# EAGLE library part TRS232E (library Pygmy)
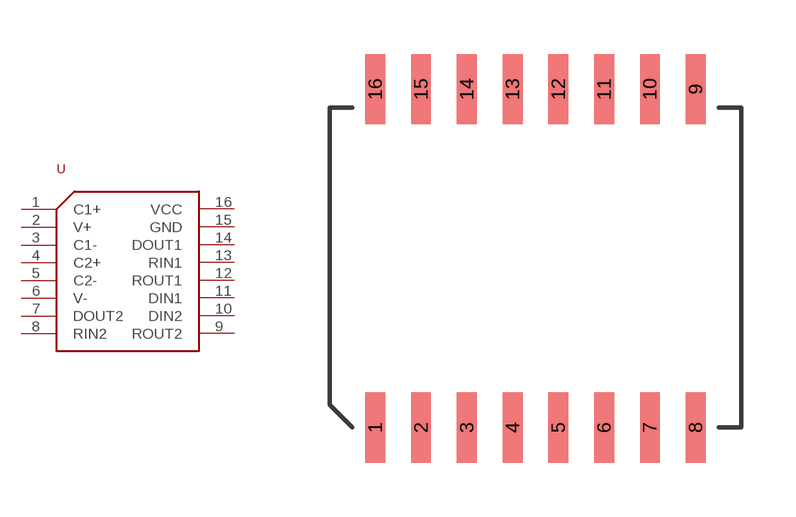
[diagram p76: symbol with the pads of R-PDSO-G16; footprint R-PDSO-G16]

Designator prefix -

## TRS232E  [R-PDSO-G16]
1  C1+
2  V+
3  C1-
4  C2+
5  C2-
6  V-
7  DOUT2
8  RIN2
9  ROUT2
10  DIN2
11  DIN1
12  ROUT1
13  RIN1
14  DOUT1
15  GND
16  VCC

## Footprint R-PDSO-G16 (pad centres in mm)
smd 0.55 x 1.95: 1 0,0; 2 1.27,0; 3 2.54,0; 4 3.81,0; 5 5.08,0; 6 6.35,0; 7 7.62,0; 8 8.89,0; 9 8.89,9.4; 10 7.62,9.4; 11 6.35,9.4; 12 5.08,9.4; 13 3.81,9.4; 14 2.54,9.4; 15 1.27,9.4; 16 0,9.4